# EAGLE library part SHF-105-01-L-D (library Jack-connectors)
IDC Header 1.27 mm
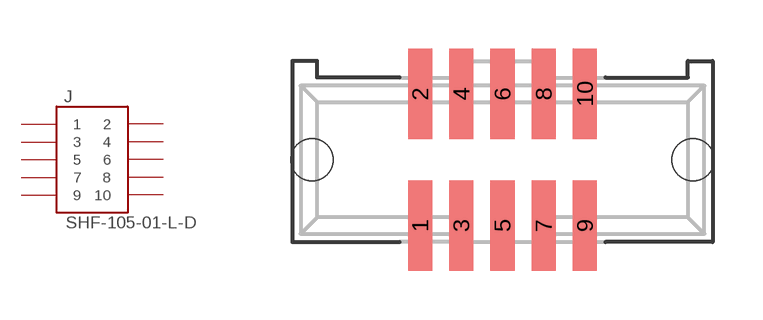
[diagram p5: symbol with the pads of SFH-105-01-L-D-SM; footprint SFH-105-01-L-D-SM]

Designator prefix J

## SHF-105-01-L-D-SM (DESCRIPTION: IDC header, 10 pins, 1.27 mm pitch; PACK: SHF-105-01-L-D-SM)  [SFH-105-01-L-D-SM]
1  1  pas
2  2  pas
3  3  pas
4  4  pas
5  5  pas
6  6  pas
7  7  pas
8  8  pas
9  9  pas
10  10  pas

## Footprint SFH-105-01-L-D-SM (pad centres in mm)
smd 0.74 x 2.795: 1 -2.54,-2.038; 2 -2.54,2.033; 3 -1.272,-2.033; 4 -1.27,2.033; 5 0,-2.033; 6 0,2.033; 7 1.27,-2.033; 8 1.27,2.033; 9 2.54,-2.033; 10 2.54,2.033
hole 1.294 at -5.867,0
hole 1.294 at 5.867,0